# Altium schematic symbol library Alpha_Sch_lib.SchLib: 3 symbols
Pins are listed as number, name and electrical type; pins without a type are passive.

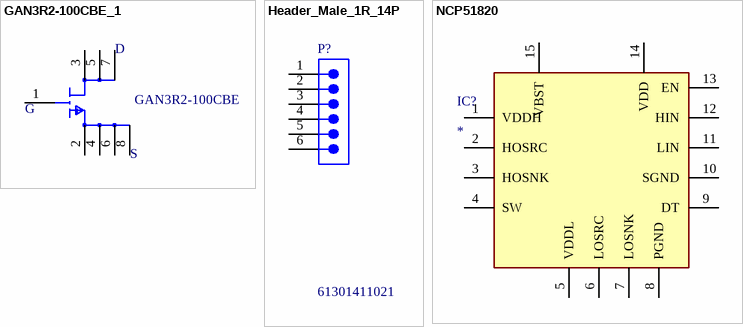
[diagram p0: symbols GAN3R2-100CBE_1 to NCP51820]

## GAN3R2-100CBE_1
designator ?, comment GAN3R2-100CBE
GAN3R2-100CBE                                                                                                                                                                                                                                                     100 V, 3.2 mOhm Gallium Nitride (GaN) FET in a 3.5 mm x 2.13 mm Wafer Level Chip; NexarPartId: 136220986; Drain to Source Resistance: 2.4mΩ; Power Dissipation: 394W; Number of Channels: 1; Drain to Source Voltage (Vdss): 100V; Gate to Source Voltage (Vgs): -4V; Max Junction Temperature (Tj): 150°C; Continuous Drain Current (ID): 60A; Height: 464µm; Max Operating Temperature: 150°C; Min Operating Temperature: -40°C; Drain to Source Breakdown Voltage: 100V; MPN: GAN3R2-100CBE
footprint FP-WLCSP8-SOT8072-MFG
pins: 1 G, 2 S, 3 D, 4 S, 5 D, 6 S, 7 D, 8 S

## Header_Male_1R_14P
designator P?, comment 61301411021
NexarPartId: 32855542; Contact Resistance: 20mΩ; Current Rating: 3A; Number of Positions: 6; Connector Type: Male Pin; Gender: Male; Number of Contacts: 14; Operating Supply Voltage: 250V; Pitch: 2.54mm; REACH SVHC: Unknown; Color: Black; Mount: Through Hole; RoHS: Compliant; Number of Pins: 6; Contact Mating Length: 5.9944mm; Packaging: Bulk; Number of Rows: 1; Termination: Solder; Lead Pitch: 2.54mm; Contact Material: Copper; Contact Plating: Gold
footprint 61301411021 (THT Angled Pin Header WR-PHD, Pitch 2.54 mm, Single Row, 14 pins)
pins: 1, 2, 3, 4, 5, 6

## NCP51820
designator IC?
Integrated Circuit; Manufacturer_Name: onsemi; Manufacturer_Part_Number: NCP51820; Datasheet Link: https://www.onsemi.com/download/data-sheet/pdf/ncp51820-d.pdf; Height: 0.9mm; Mouser Part Number: N/A; Mouser Price/Stock: https://www.mouser.co.uk/ProductDetail/onsemi/NCP51820?qs=vEM7xhTegWhaPMdkL3AwCA%3D%3D
footprint NCP51820
pins: 1 VDDH, 2 HOSRC, 3 HOSNK, 4 SW, 5 VDDL, 6 LOSRC, 7 LOSNK, 8 PGND, 9 DT, 10 SGND, 11 LIN, 12 HIN, 13 EN, 14 VDD, 15 VBST